# EAGLE library part LM4888SQ (library m-pad-2.1)
National's LM4888 Dual 2.1W Audio Amplifier Plus Stereo Headphone & 3D Enhancement Description: The LM4888 is a dual bridge-connected audio power amplifier which, when connected to a 5V supply, will deliver 2.1W to a 4Ohm load (Note 1) or 2.4W to a 3Ohm load (Note 2) with less than 1.0% THD+N. A user selectable 'National 3D Enhancement' mode provides enhanced stereo imaging. The LM4888SQ also has two separate HP (headphone) enable inputs, each having different logic level thresholds. Either HP enable input activates the single ended headphone mode and disables the BTL output mode. The HP Sense input is for use with a normal stereo headphone jack. The remaining input, HP Logic, accepts standard logic level thresholds. Boomer audio power amplifiers were designed specifically to provide high quality output power from a surface mount package while requiring few external components. To simplify audio system design, the LM4888SQ combines dual bridge speaker amplifiers and stereo headphone amplifiers on one chip. The LM4888SQ features a low-power consumption shutdown mode and thermal shutdown protection. It also utilizes circuitry to reduce 'clicks and pops' during device turn-on. Key Specifications: PO at 1% THD+N, VDD = 5V - RL = 3Ohm 2.4W (typ) - RL = 4Ohm 2.1W (typ) - RL = 8Ohm 1.3W (typ) Single-ended mode THD+N at 75mW into 32Ohm (5V, 1kHz) 0.01% (typ) Shutdown current 0.04uA (typ) Supply voltage range 2.7V to 5.5V PSRR at 217Hz 85dB (typ) Features: National 3D Enhancement Selectable headphone enable modes Stereo headphone amplifier mode Improved 'click and pop' suppression circuitry Thermal shutdown protection circuitry PCB area-saving SQ package Micro power shutdown mode Applications: Cell phones Multimedia monitors Portable and desktop computers Portable audio systems Please send any comments to: messi@users.sourceforge.net
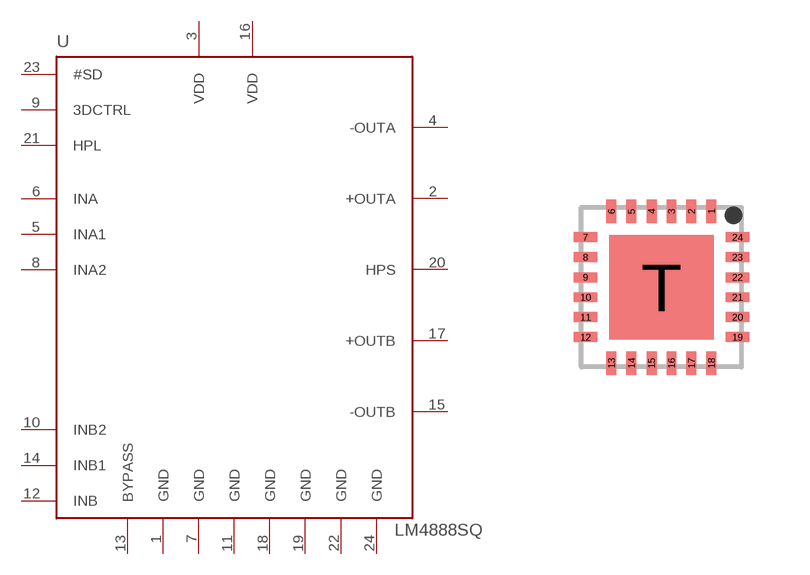
[diagram p140: symbol with the pads of SQA24A; footprint SQA24A]

Designator prefix U

## LM4888SQ  [SQA24A]
1  GND  pwr
2  +OUTA  out
3  VDD  pwr
4  -OUTA  out
5  INA1  in
6  INA  in
7  GND  pwr
8  INA2  in
9  3DCTRL  in
10  INB2  in
11  GND  pwr
12  INB  in
13  BYPASS
14  INB1  in
15  -OUTB  out
16  VDD  pwr
17  +OUTB  out
18  GND  pwr
19  GND  pwr
20  HPS  in
21  HPL  in
22  GND  pwr
23  #SD  in
24  GND  pwr

## Footprint SQA24A (pad centres in mm)
smd 0.25 x 0.6: 1 1.25,1.9; 2 0.75,1.9; 3 0.25,1.9; 4 -0.25,1.9; 5 -0.75,1.9; 6 -1.25,1.9; 13 -1.25,-1.9; 14 -0.75,-1.9; 15 -0.25,-1.9; 16 0.25,-1.9; 17 0.75,-1.9; 18 1.25,-1.9
smd 0.6 x 0.25: 7 -1.9,1.25; 8 -1.9,0.75; 9 -1.9,0.25; 10 -1.9,-0.25; 11 -1.9,-0.75; 12 -1.9,-1.25; 19 1.9,-1.25; 20 1.9,-0.75; 21 1.9,-0.25; 22 1.9,0.25; 23 1.9,0.75; 24 1.9,1.25
smd 2.6 x 2.6: T 0,0